# Altium footprint library Shielded inductor.PcbLib: 1 footprints
Each footprint in its own frame and in the unit in brackets; x right, y up, seen from the top. Pads: shape width x height; smd on the part's side, far side on the other; paste and mask are expansions set on the pad; w line width, h text height; cw(c..) or ccw(c..) is an arc to the next point about the centre after c.
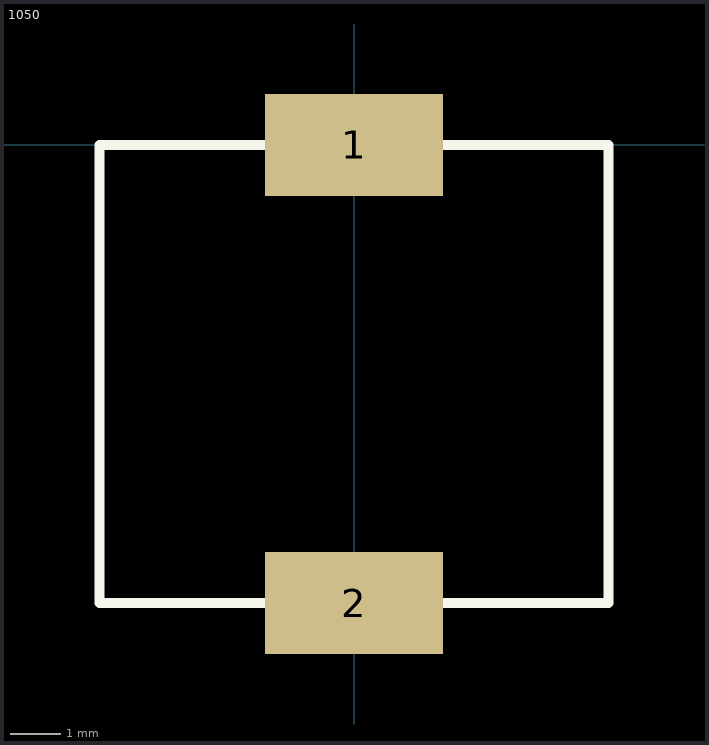
[diagram p0: the footprint, top view; thin cyan lines are the x and y axes]

## 1050 [mm]
pads (2):
  rect 3.5x2 smd paste+0 mask+1: 1(0,0) 2(0,-9)
Top Overlay:
  lines w0.2: -5,-9 -5,0 5,0 5,-9 -5,-9